# Altium schematic symbol library ETC1-1-13M.SchLib: 1 symbol
Pins are listed as number, name and electrical type; pins without a type are passive.

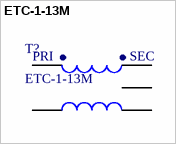
[diagram p0: symbol ETC-1-13M]

## ETC-1-13M
designator T?
RF balun
footprint ETC1-1-13M (RF balun)
pins: 1 PD, 2 P, 3 S, 4 G, 5 SD
text: PRI; SEC